# Altium schematic symbol library Trans_Infineon_IRF9540NPBF_eec.SchLib: 1 symbol
Pins are listed as number, name and electrical type; pins without a type are passive.

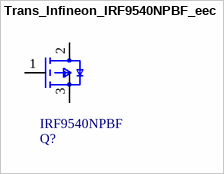
[diagram p0: symbol Trans_Infineon_IRF9540NPBF_eec]

## Trans_Infineon_IRF9540NPBF_eec
designator Q?  Part Number: IRF9540NPBF
TRANS MOSFET P-CH 100V 23A TO-220AB; Manufacturer: Infineon; helpURL: https://upverter.com/upn/revision/7f29c573dd9ab030/; ComponentLink2Description: Datasheet; Temperature: -55°C to +175°C; Package: TO-220AB; Supplier 2: Mouser; Price: 0.748028352746; Supplier 1: Digi-Key; ComponentLink1URL: https://upverter.com/upn/revision/7f29c573dd9ab030/; Supplier Part Number 2: 942-IRF9540NPBF; Supplier Part Number 1: IRF9540NPBF-ND; ComponentLink1Description: Upverter; ComponentLink2URL: http://www.irf.com/product-info/datasheets/data/irf9540.pdf; RoHS: TRUE; Mouser Part Number: 942-IRF9540NPBF; Temperature Range High: +175°C; Digikey Description: TRANS MOSFET P-CH 100V 23A TO-220AB; Digikey Part Number: IRF9540NPBF-ND; Lead Free: Yes; Mfg Package Ident: TO-220AB; Temperature Range Low: -55°C
footprint Infineon_TO-220AB_0
pins: 1 GATE, 2 DRAIN, 3 SOURCE